# EAGLE library part INA3221_RGV_16 (library ina)
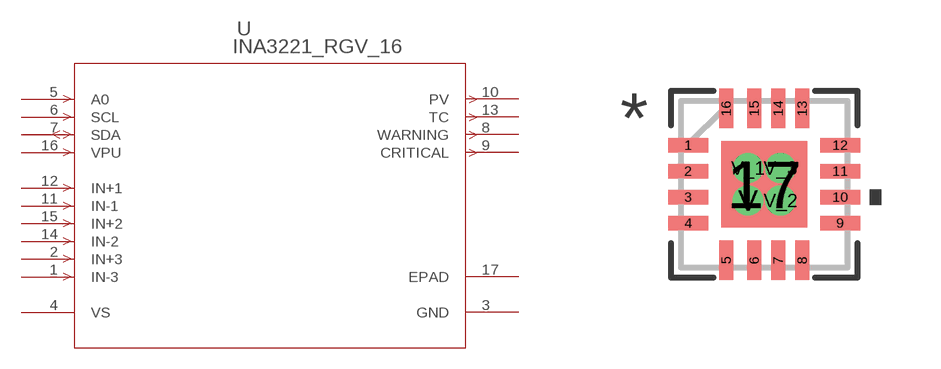
[diagram p0: symbol with the pads of RGV16_2P16X2P16; footprint RGV16_2P16X2P16]

Designator prefix U

## INA3221_RGV_16 (DATASHEETURL: http://www.ti.com/lit/gpn/INA3221; FAMILY_NAME: Standard CMV - Digital Output; GENERIC_PART_NUMBER: INA3221; INDUSTRY_STD_PKG_TYPE: VQFN; MANUFACTURER: Texas Instruments; PACKAGE_DESIGNATOR: RGV; PIN_COUNT: 16)  [RGV16_2P16X2P16]
1  IN-3  in
2  IN+3  in
3  GND  pwr
4  VS  pas
5  A0  in
6  SCL  in
7  SDA
8  WARNING  out
9  CRITICAL  out
10  PV  out
11  IN-1  in
12  IN+1  in
13  TC  out
14  IN-2  in
15  IN+2  in
16  VPU  in
17  EPAD  pas

## Footprint RGV16_2P16X2P16 (pad centres in mm)
smd 1 x 0.35: 1 -1.9,0.975; 2 -1.9,0.325; 3 -1.9,-0.325; 4 -1.9,-0.975; 9 1.9,-0.975; 10 1.9,-0.325; 11 1.9,0.325; 12 1.9,0.975
smd 0.35 x 1: 5 -0.95,-1.9; 6 -0.25,-1.9; 7 0.35,-1.9; 8 0.95,-1.9; 13 0.95,1.9; 14 0.35,1.9; 15 -0.25,1.9; 16 -0.95,1.9
smd 2.16 x 2.16: 17 0,0
drill 0.254 pad 0.508: V -0.406,-0.406; V_1 -0.406,0.406; V_2 0.406,-0.406; V_3 0.406,0.406